# EAGLE library part LTC4361 (library BreakoutBoard)
LTC4361-1/2 Overvoltage/Overcurrent Protection Controller Note: After an overcurrent fault, the LTC4361-1 remains off while the LTC4361-2 automatically restarts after a 130ms start-up delay. Source: http://cds.linear.com/docs/Datasheet/436112fa.pdf
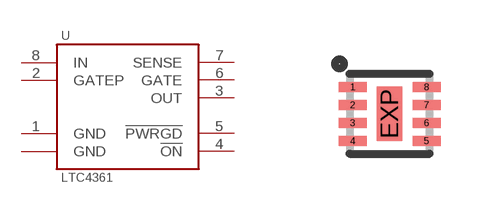
[diagram p9: symbol with the pads of DFN-8; footprint DFN-8]

Designator prefix U

## LTC4361-1DC (DIGI-KEY#: LTC4361IDC-1#TRMPBFCT-ND; MF: Linear Technology; MPN: LTC4361IDC-1#TRMPBF), LTC4361-2DC (DIGI-KEY#: LTC4361IDC-2#TRMPBFCT-ND; MF: Linear Technology; MPN: LTC4361IDC-2#TRMPBF)  [DFN-8]
1  GND  pwr
2  GATEP  out
3  OUT  pwr
4  !ON  in
5  !PWRGD  oc
6  GATE  out
7  SENSE  in
8  IN  pwr
EXP  GND  pwr

## Footprint DFN-8 (pad centres in mm)
DC Package 8-Lead Plastic DFN (2mm × 2mm) Source: http://cds.linear.com/docs/Datasheet/436112fa.pdf
smd 0.7 x 0.25: 1 -0.925,0.675; 2 -0.925,0.225; 3 -0.925,-0.225; 4 -0.925,-0.675; 5 0.925,-0.675; 6 0.925,-0.225; 7 0.925,0.225; 8 0.925,0.675
smd 0.64 x 1.37: EXP 0,0